# Altium integrated library Big_Library_Fuse_PTC.IntLib: 1 symbol
Pins are listed as number, name and electrical type; pins without a type are passive.

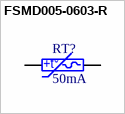
[diagram p0: symbol FSMD005-0603-R]

## FSMD005-0603-R
designator RT?, comment 50mA
Current Trip: 250mA; Current Hold: 50mA; Package: 0603; ComponentLink1Description: Link; ComponentLink1URL: https://ozdisan.com/circuit-protections/fuse-components/ptc-resettable-fuses/FSMD005-0603-R/574975
footprint FUSE 0603_1608 0.5MM (Chip Fuse 1.5A AC 5V DC, 2-Leads, Body 1.54x0.85mm)
pins: 1, 2
text: +t°